# Altium schematic symbol library BC847BPN.SchLib: 1 symbol
Pins are listed as number, name and electrical type; pins without a type are passive.

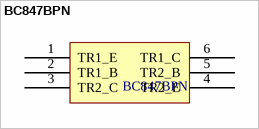
[diagram p0: symbol BC847BPN]

## BC847BPN
designator BC847BPN
footprint BC847BPN
pins: 1 TR1_E, 2 TR1_B, 3 TR2_C, 4 TR2_E, 5 TR2_B, 6 TR1_C